# Altium footprint library A7585.PcbLib: 1 footprints
Each footprint in its own frame and in the unit in brackets; x right, y up, seen from the top. Pads: shape width x height; smd on the part's side, far side on the other; paste and mask are expansions set on the pad; w line width, h text height; cw(c..) or ccw(c..) is an arc to the next point about the centre after c.
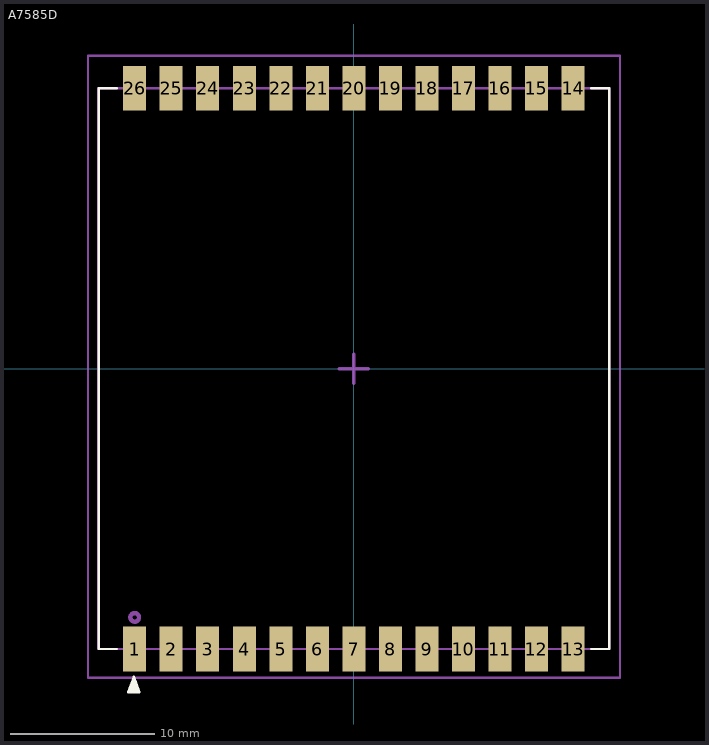
[diagram p0: the footprint, top view; thin cyan lines are the x and y axes]

## A7585D [mm]
height 5
pads (26):
  rect 1.6x3.1 smd: 1(-15.24,-19.5) 2(-12.7,-19.5) 3(-10.16,-19.5) 4(-7.62,-19.5) 5(-5.08,-19.5) 6(-2.54,-19.5) 7(0,-19.5) 8(2.54,-19.5) 9(5.08,-19.5) 10(7.62,-19.5) 11(10.16,-19.5) 12(12.7,-19.5) 13(15.24,-19.5) 14(15.24,19.5) 15(12.7,19.5) 16(10.16,19.5) 17(7.62,19.5) 18(5.08,19.5) 19(2.54,19.5) 20(0,19.5) 21(-2.54,19.5) 22(-5.08,19.5) 23(-7.62,19.5) 24(-10.16,19.5) 25(-12.7,19.5) 26(-15.24,19.5)
Top Overlay:
  region: -15.7,-22.5 -15.3,-21.4 -14.9,-22.5
  lines w0.15: -16.49,-19.5 -17.74,-19.5 -17.74,19.5 -16.49,19.5 ; 16.51,-19.5 17.76,-19.5 17.76,19.5 16.51,19.5 ; -15.7,-22.5 -14.9,-22.5 -15.3,-21.4 -15.7,-22.5
Mechanical 13:
  circle w0.3: c-15.24,-17.3 r0.3
  lines w0.15: -17.78,-19.5 17.78,-19.5 17.78,19.5 -17.78,19.5 -17.78,-19.5
  text ".Designator" at -12.7,-16.7 h3
Mechanical 15:
  lines w0.15: -18.49,-21.5 -18.49,21.75 18.51,21.75 18.51,-21.5 -18.49,-21.5
  lines w0.254: -1,0 1,0 ; 0,-1 0,1
3D body "A7585D.STEP": height 5.42, standoff -0.02, extent -17.78,-19.5 17.78,19.5